# Altium footprint library HC49_SMD.PcbLib: 1 footprints
Each footprint in its own frame and in the unit in brackets; x right, y up, seen from the top. Pads: shape width x height; smd on the part's side, far side on the other; paste and mask are expansions set on the pad; w line width, h text height; cw(c..) or ccw(c..) is an arc to the next point about the centre after c.
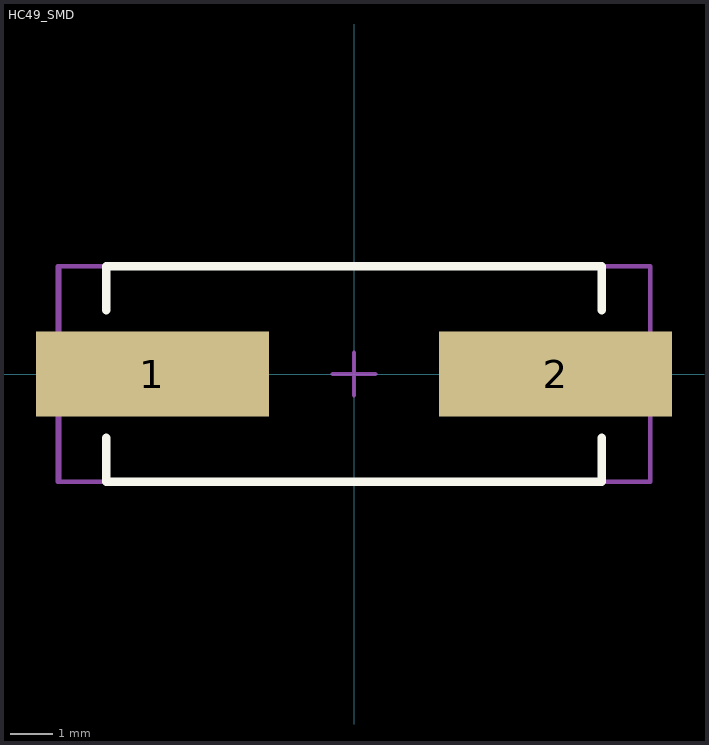
[diagram p0: the footprint, top view; thin cyan lines are the x and y axes]

## HC49_SMD [mm] "HC49, 2-Leads"
height 4
pads (2):
  rect 5.5x2 smd: 1(-4.75,0) 2(4.75,0)
Top Overlay:
  lines w0.2: -5.842,-1.5 -5.842,-2.54 5.842,-2.54 5.842,-1.5 ; -5.842,1.5 -5.842,2.54 5.842,2.54 5.842,1.5
Mechanical 13:
  lines w0.1: -6.985,-2.54 6.985,-2.54 6.985,2.54 -6.985,2.54 -6.985,-2.54
Mechanical 15:
  lines w0.05: -6.925,-2.54 6.985,-2.54 6.985,2.54 -6.925,2.54 -6.925,-2.54
  lines w0.1: -0.5,0 0.5,0 ; 0,-0.5 0,0.5
Mechanical 17:
  text "'.Designator'" at -4.826,-0.508 h1.02
3D body "User Library-HC49_Crystal_SM.step": height 4.5, standoff -0.01, extent -6.95,-2.5 6.95,2.5